# EAGLE library part LTC2418CGN#PBF (library LTC2418CGN ADC)
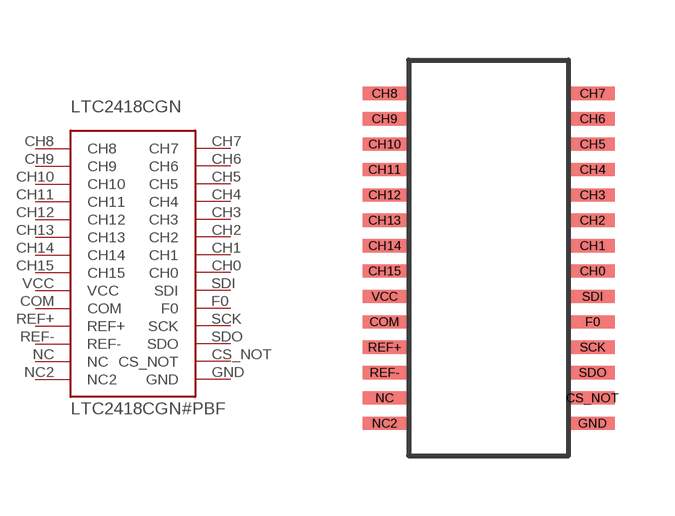
[diagram p0: symbol with the pads of LTC2418CGN#PBF; footprint LTC2418CGN#PBF]

Designator prefix LTC2418CGN

## LTC2418CGN#PBF  [LTC2418CGN#PBF]
CH0  CH0
CH1  CH1
CH2  CH2
CH3  CH3
CH4  CH4
CH5  CH5
CH6  CH6
CH7  CH7
CH8  CH8
CH9  CH9
CH10  CH10
CH11  CH11
CH12  CH12
CH13  CH13
CH14  CH14
CH15  CH15
COM  COM
CS_NOT  CS_NOT
F0  F0
GND  GND
NC  NC
NC2  NC2
REF+  REF+
REF-  REF-
SCK  SCK
SDI  SDI
SDO  SDO
VCC  VCC

## Footprint LTC2418CGN#PBF (pad centres in mm)
smd 1.105 x 0.33: CH0 5.7,-5.283; CH1 5.7,-4.648; CH2 5.7,-4.013; CH3 5.7,-3.378; CH4 5.7,-2.743; CH5 5.7,-2.108; CH6 5.7,-1.473; CH7 5.7,-0.838; CH8 0.5,-0.838; CH9 0.5,-1.473; CH10 0.5,-2.108; CH11 0.5,-2.743; CH12 0.5,-3.378; CH13 0.5,-4.013; CH14 0.5,-4.648; CH15 0.5,-5.283; COM 0.5,-6.553; CS_NOT 5.7,-8.458; F0 5.7,-6.553; GND 5.7,-9.093; NC 0.5,-8.458; NC2 0.5,-9.093; REF+ 0.5,-7.188; REF- 0.5,-7.823; SCK 5.7,-7.188; SDI 5.7,-5.918; SDO 5.7,-7.823; VCC 0.5,-5.918